# EAGLE library part 74HC393 (library 1_spektrak)
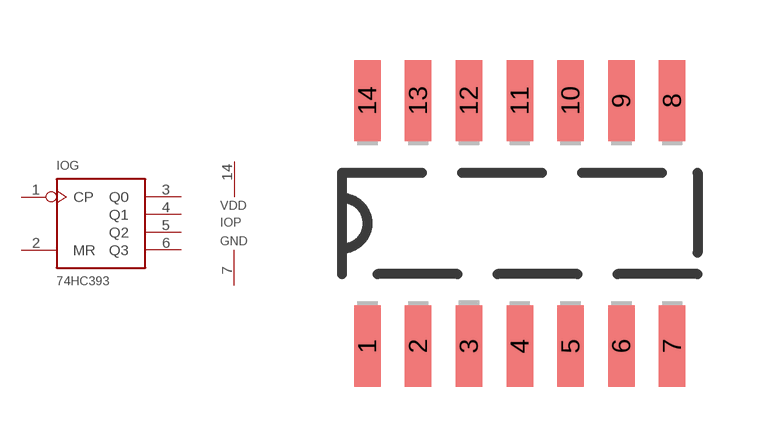
[diagram p5: symbol with the pads of SO14; footprint SO14]

Designator prefix IO; gates G=74HC393 P=PWRGND

## 74HC393  [SO14]
1  G:CP  in
2  G:MR  in
3  G:Q0  out
4  G:Q1  out
5  G:Q2  out
6  G:Q3  out
7  P:GND  pwr
14  P:VDD  pwr

## Footprint SO14 (pad centres in mm)
Small Outline package 150 mil
smd 0.66 x 2.032: 1 -3.81,-3.073; 2 -2.54,-3.073; 3 -1.27,-3.073; 4 0,-3.073; 5 1.27,-3.073; 6 2.54,-3.073; 7 3.81,-3.073; 8 3.81,3.073; 9 2.54,3.073; 10 1.27,3.073; 11 0,3.073; 12 -1.27,3.073; 13 -2.54,3.073; 14 -3.81,3.073